# Altium footprint library SIPF24_2_MM.PcbLib: 1 footprints
Each footprint in its own frame and in the unit in brackets; x right, y up, seen from the top. Pads: shape width x height; smd on the part's side, far side on the other; paste and mask are expansions set on the pad; w line width, h text height; cw(c..) or ccw(c..) is an arc to the next point about the centre after c.
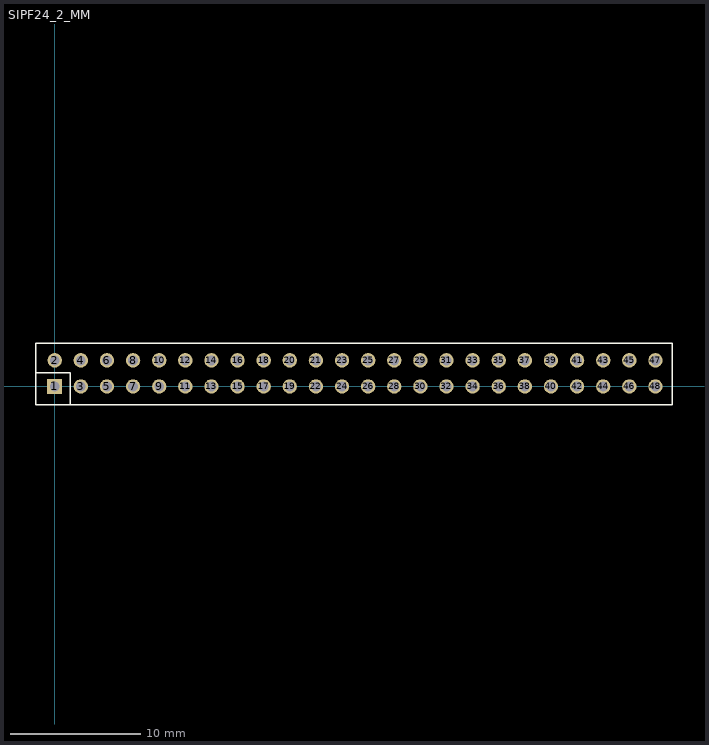
[diagram p0: the footprint, top view; thin cyan lines are the x and y axes]

## SIPF24_2_MM [mm]
pads (48):
  rect 1.15x1.15 hole 0.75: 1(0,0)
  round 1.1 hole 0.75: 2(0,2) 3(2,0) 4(2,2) 5(4,0) 6(4,2) 7(6,0) 8(6,2) 9(8,0) 10(8,2) 11(10,0) 12(10,2) 13(12,0) 14(12,2) 15(14,0) 16(14,2) 17(16,0) 18(16,2) 19(18,0) 20(18,2) 21(20,2) 22(20,0) 23(22,2) 24(22,0) 25(24,2) 26(24,0) 27(26,2) 28(26,0) 29(28,2) 30(28,0) 31(30,2) 32(30,0) 33(32,2) 34(32,0) 35(34,2) 36(34,0) 37(36,2) 38(36,0) 39(38,2) 40(38,0) 41(40,2) 42(40,0) 43(42,2) 44(42,0) 45(44,2) 46(44,0) 47(46,2) 48(46,0)
Top Overlay:
  lines w0.127: -1.448,1.041 1.182,1.041 1.182,-1.397 ; -1.448,-1.397 -1.448,3.308 47.282,3.308 47.282,-1.397 -1.448,-1.397
3D body: height 4, standoff -2.8, extent -1.326,-1.308 47.173,3.192